# EAGLE library part 1PEEK06 (library con-odu_med)
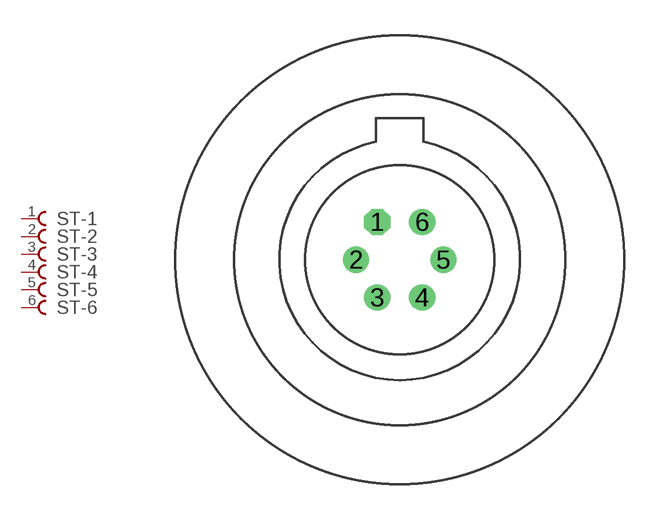
[diagram p0: symbol with the pads of 1PEEK06; footprint 1PEEK06]

Designator prefix ST; gates -1=KONTAKT -2=KONTAKT -3=KONTAKT -4=KONTAKT -5=KONTAKT -6=KONTAKT

## 1PEEK06  [1PEEK06]
1  -1:P$1  pas
2  -2:P$1  pas
3  -3:P$1  pas
4  -4:P$1  pas
5  -5:P$1  pas
6  -6:P$1  pas

## Footprint 1PEEK06 (pad centres in mm)
drill 0.6 octagon: 1 -0.95,1.6
drill 0.6: 2 -1.85,0; 3 -0.95,-1.6; 4 0.95,-1.6; 5 1.85,0; 6 0.95,1.6